# Altium footprint library Components - 26.09.21 - 20.54.PcbLib: 1 footprints
Each footprint in its own frame and in the unit in brackets; x right, y up, seen from the top. Pads: shape width x height; smd on the part's side, far side on the other; paste and mask are expansions set on the pad; w line width, h text height; cw(c..) or ccw(c..) is an arc to the next point about the centre after c.
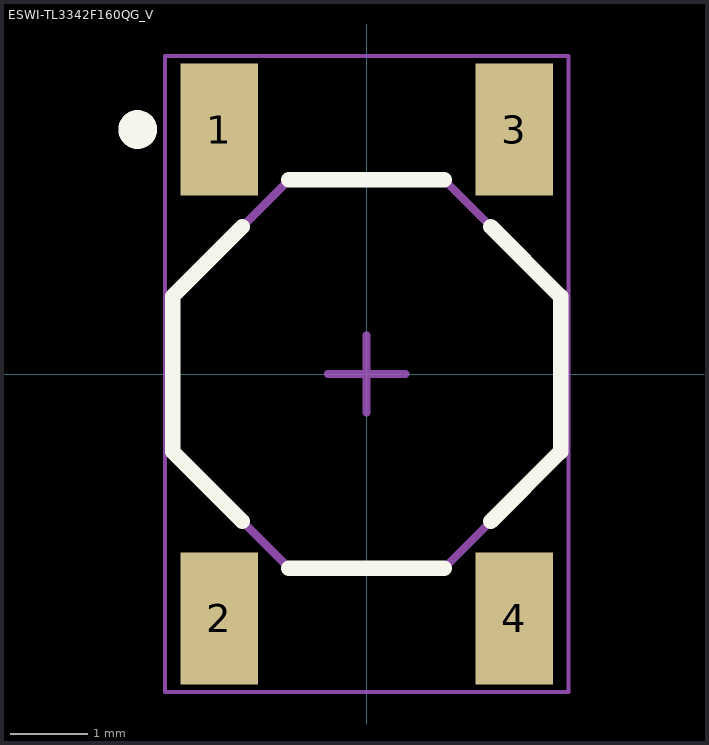
[diagram p0: the footprint, top view; thin cyan lines are the x and y axes]

## ESWI-TL3342F160QG_V [mm] "SMD, 4-Leads, Body 5x5mm, Pitch 6.3mm"
height 1.5
pads (4):
  rect 1x1.7 smd: 1(-1.9,3.15) 2(-1.9,-3.15) 3(1.9,3.15) 4(1.9,-3.15)
Top Overlay:
  circle w0.25: c-2.95,3.15 r0.125
  lines w0.2: -1.6,-1.9 -2.5,-1 -2.5,1 -1.6,1.9 ; -1,-2.5 1,-2.5 ; -1,2.5 1,2.5 ; 1.6,-1.9 2.5,-1 2.5,1 1.6,1.9
Mechanical 13:
  lines w0.1: -2.5,-1 -2.5,1 -1,2.5 1,2.5 2.5,1 2.5,-1 1,-2.5 -1,-2.5 -2.5,-1
Mechanical 15:
  lines w0.05: -2.6,-4.1 -2.6,4.1 2.6,4.1 2.6,-4.1 -2.6,-4.1
  lines w0.1: -0.5,0 0.5,0 ; 0,-0.5 0,0.5
3D body: height 1.2, standoff 0.8, extent -1.899,-1.899 1.899,1.899
3D body: height 1.5, standoff 1.2, extent -0.999,-0.999 0.999,0.999
3D body: height 0.8, standoff 0, extent -2.5,-2.5 2.5,2.5